# EAGLE library part STM32G031J*T (library micro-stm)
Added by Aleks
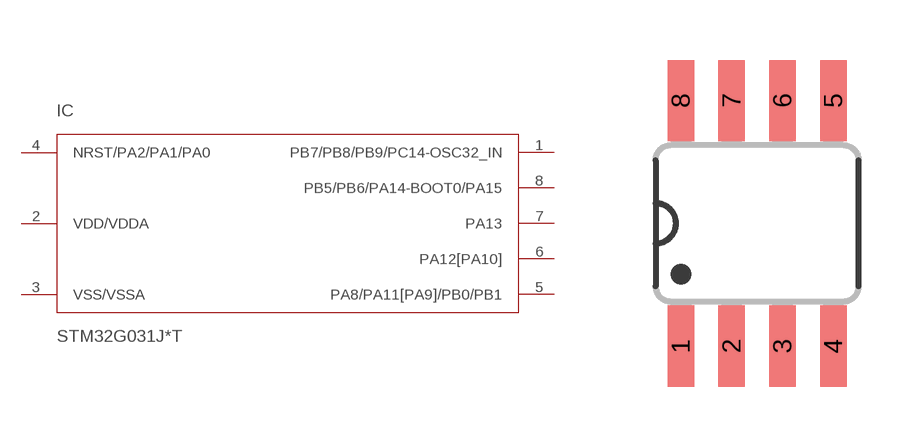
[diagram p180: symbol with the pads of SO-08; footprint SO-08]

Designator prefix IC

## STM32G031J6T, STM32G031J8T  [SO-08]
1  PB7/PB8/PB9/PC14-OSC32_IN
2  VDD/VDDA
3  VSS/VSSA
4  NRST/PA2/PA1/PA0
5  PA8/PA11[PA9]/PB0/PB1
6  PA12[PA10]
7  PA13
8  PB5/PB6/PA14-BOOT0/PA15

## Footprint SO-08 (pad centres in mm)
Small Outline Narrow Plastic Gull Wing 150-mil body, package type SN
smd 0.66 x 2.032: 1 -1.905,-3.073; 2 -0.635,-3.073; 3 0.635,-3.073; 4 1.905,-3.073; 5 1.905,3.073; 6 0.635,3.073; 7 -0.635,3.073; 8 -1.905,3.073